# EAGLE library part ROCKBLOCK- (library CaliBeta-Modulos)
Tranceptor satelital Iridium 9340 con antena integrada que facilita el uso de los servicios de Iridium Short-Burst Data Datasheet <https://cdn.sparkfun.com/assets/c/0/9/e/1/RockBLOCK-Product-Information-Sheet.pdf> User Guide <http://rock7mobile.com/downloads/RockBLOCK-Developer-Guide-Mk2.pdf>
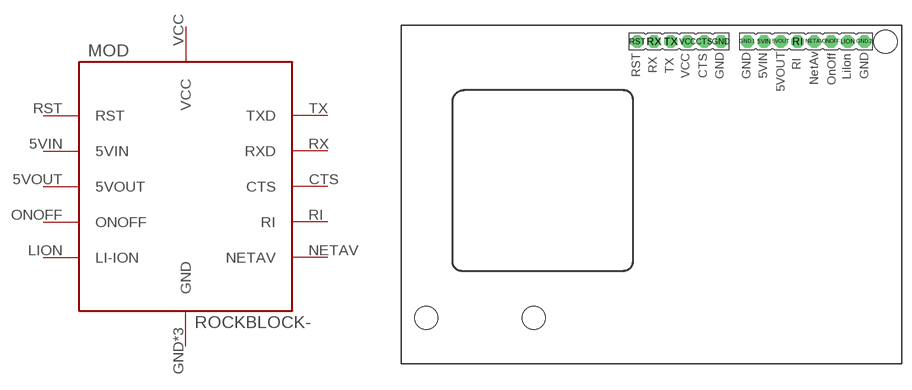
[diagram p4: symbol with the pads of ROCKBLOCK-MK2; footprint ROCKBLOCK-MK2]

Designator prefix MOD

## ROCKBLOCK-MK2  [ROCKBLOCK-MK2]
5VIN  5VIN
5VOUT  5VOUT
CTS  CTS
GND  GND  pwr
GND.1  GND  pwr
GND.2  GND  pwr
LION  LI-ION  pwr
NETAV  NETAV
ONOFF  ONOFF
RI  RI
RST  RST
RX  RXD
TX  TXD
VCC  VCC  pwr

## Footprint ROCKBLOCK-MK2 (pad centres in mm)
drill 1 pad 1.93 octagon: 5VIN 55.11,49.03; 5VOUT 57.65,49.03; CTS 46.01,49.03; GND 48.55,49.03; GND.1 52.57,49.03; GND.2 70.35,49.03; LION 67.81,49.03; NETAV 62.73,49.03; ONOFF 65.27,49.03; RI 60.19,49.03; RST 35.85,49.03; RX 38.39,49.03; TX 40.93,49.03; VCC 43.47,49.03
hole 3.5 at 3.8,7
hole 3.5 at 20.1,7
hole 3.5 at 73.55,49